# Altium footprint library s-PBGA.PcbLib: 1 footprints
Each footprint in its own frame and in the unit in brackets; x right, y up, seen from the top. Pads: shape width x height; smd on the part's side, far side on the other; paste and mask are expansions set on the pad; w line width, h text height; cw(c..) or ccw(c..) is an arc to the next point about the centre after c.
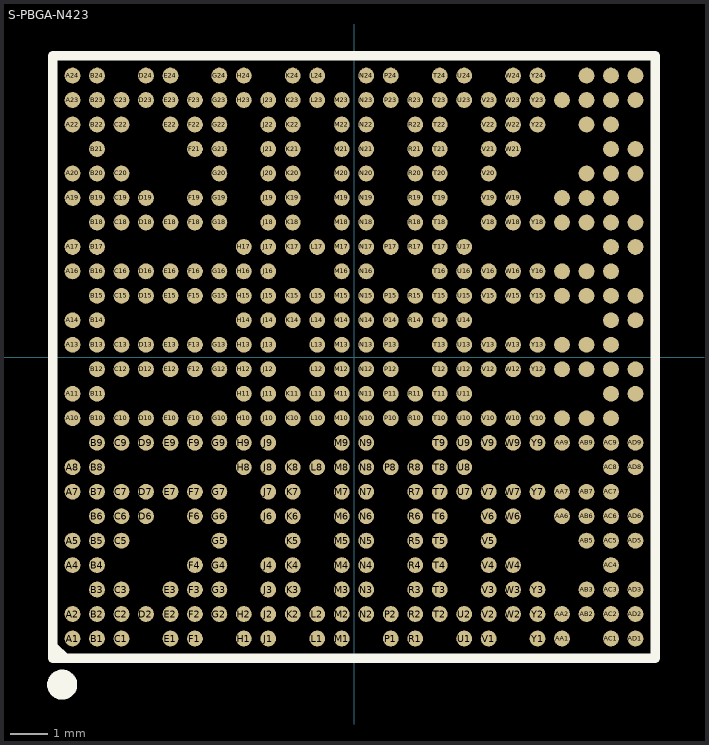
[diagram p0: the footprint, top view; thin cyan lines are the x and y axes]

## S-PBGA-N423 [mm]
pads (424):
  round 0.42 smd mask+0.051: A1(-7.475,-7.475) A2(-7.475,-6.825) A4(-7.475,-5.525) A5(-7.475,-4.875) A7(-7.475,-3.575) A8(-7.475,-2.925) A10(-7.475,-1.625) A11(-7.475,-0.975) A13(-7.475,0.325) A14(-7.475,0.975) A16(-7.475,2.275) A17(-7.475,2.925) A19(-7.475,4.225) A20(-7.475,4.875) A22(-7.475,6.175) A23(-7.475,6.825) A24(-7.475,7.475) AA1(5.525,-7.475) AA2(5.525,-6.825) AA6(5.525,-4.225) AA7(5.525,-3.575) AA9(5.525,-2.275) AA10(5.525,-1.625) AA12(5.525,-0.325) AA13(5.525,0.325) AA15(5.525,1.625) AA16(5.525,2.275) AA18(5.525,3.575) AA19(5.525,4.225) AA23(5.525,6.825) AB2(6.175,-6.825) AB3(6.175,-6.175) AB5(6.175,-4.875) AB6(6.175,-4.225) AB7(6.175,-3.575) AB9(6.175,-2.275) AB10(6.175,-1.625) AB12(6.175,-0.325) AB13(6.175,0.325) AB15(6.175,1.625) AB16(6.175,2.275) AB18(6.175,3.575) AB19(6.175,4.225) AB20(6.175,4.875) AB22(6.175,6.175) AB23(6.175,6.825) AB24(6.175,7.475) AC1(6.825,-7.475) AC2(6.825,-6.825) AC3(6.825,-6.175) AC4(6.825,-5.525) AC5(6.825,-4.875) AC6(6.825,-4.225) AC7(6.825,-3.575) AC8(6.825,-2.925) AC9(6.825,-2.275) AC10(6.825,-1.625) AC11(6.825,-0.975) AC12(6.825,-0.325) AC13(6.825,0.325) AC14(6.825,0.975) AC15(6.825,1.625) AC16(6.825,2.275) AC17(6.825,2.925) AC18(6.825,3.575) AC19(6.825,4.225) AC20(6.825,4.875) AC21(6.825,5.525) AC22(6.825,6.175) AC23(6.825,6.825) AC24(6.825,7.475) AD1(7.475,-7.475) AD2(7.475,-6.825) AD3(7.475,-6.175) AD5(7.475,-4.875) AD6(7.475,-4.225) AD8(7.475,-2.925) AD9(7.475,-2.275) AD11(7.475,-0.975) AD12(7.475,-0.325) AD14(7.475,0.975) AD15(7.475,1.625) AD17(7.475,2.925) AD18(7.475,3.575) AD20(7.475,4.875) AD21(7.475,5.525) AD23(7.475,6.825) AD24(7.475,7.475) B1(-6.825,-7.475) B2(-6.825,-6.825) B3(-6.825,-6.175) B4(-6.825,-5.525) B5(-6.825,-4.875) B6(-6.825,-4.225) B7(-6.825,-3.575) B8(-6.825,-2.925) B9(-6.825,-2.275) B10(-6.825,-1.625) B11(-6.825,-0.975) B12(-6.825,-0.325) B13(-6.825,0.325) B14(-6.825,0.975) B15(-6.825,1.625) B16(-6.825,2.275) B17(-6.825,2.925) B18(-6.825,3.575) B19(-6.825,4.225) B20(-6.825,4.875) B21(-6.825,5.525) B22(-6.825,6.175) B23(-6.825,6.825) B24(-6.825,7.475) C1(-6.175,-7.475) C2(-6.175,-6.825) C3(-6.175,-6.175) C5(-6.175,-4.875) C6(-6.175,-4.225) C7(-6.175,-3.575) C9(-6.175,-2.275) C10(-6.175,-1.625) C12(-6.175,-0.325) C13(-6.175,0.325) C15(-6.175,1.625) C16(-6.175,2.275) C18(-6.175,3.575) C19(-6.175,4.225) C20(-6.175,4.875) C22(-6.175,6.175) C23(-6.175,6.825) D2(-5.525,-6.825) D6(-5.525,-4.225) D7(-5.525,-3.575) D9(-5.525,-2.275) D10(-5.525,-1.625) D12(-5.525,-0.325) D13(-5.525,0.325) D15(-5.525,1.625) D16(-5.525,2.275) D18(-5.525,3.575) D19(-5.525,4.225) D23(-5.525,6.825) D24(-5.525,7.475) E1(-4.875,-7.475) E2(-4.875,-6.825) E3(-4.875,-6.175) E7(-4.875,-3.575) E9(-4.875,-2.275) E10(-4.875,-1.625) E12(-4.875,-0.325) E13(-4.875,0.325) E15(-4.875,1.625) E16(-4.875,2.275) E18(-4.875,3.575) E22(-4.875,6.175) E23(-4.875,6.825) E24(-4.875,7.475) F1(-4.225,-7.475) F2(-4.225,-6.825) F3(-4.225,-6.175) F4(-4.225,-5.525) F6(-4.225,-4.225) F7(-4.225,-3.575) F9(-4.225,-2.275) F10(-4.225,-1.625) F12(-4.225,-0.325) F13(-4.225,0.325) F15(-4.225,1.625) F16(-4.225,2.275) F18(-4.225,3.575) F19(-4.225,4.225) F21(-4.225,5.525) F22(-4.225,6.175) F23(-4.225,6.825) G2(-3.575,-6.825) G3(-3.575,-6.175) G4(-3.575,-5.525) G5(-3.575,-4.875) G6(-3.575,-4.225) G7(-3.575,-3.575) G9(-3.575,-2.275) G10(-3.575,-1.625) G12(-3.575,-0.325) G13(-3.575,0.325) G15(-3.575,1.625) G16(-3.575,2.275) G18(-3.575,3.575) G19(-3.575,4.225) G20(-3.575,4.875) G21(-3.575,5.525) G22(-3.575,6.175) G23(-3.575,6.825) G24(-3.575,7.475) H1(-2.925,-7.475) H2(-2.925,-6.825) H8(-2.925,-2.925) H9(-2.925,-2.275) H10(-2.925,-1.625) H11(-2.925,-0.975) H12(-2.925,-0.325) H13(-2.925,0.325) H14(-2.925,0.975) H15(-2.925,1.625) H16(-2.925,2.275) H17(-2.925,2.925) H23(-2.925,6.825) H24(-2.925,7.475) J1(-2.275,-7.475) J2(-2.275,-6.825) J3(-2.275,-6.175) J4(-2.275,-5.525) J6(-2.275,-4.225) J7(-2.275,-3.575) J8(-2.275,-2.925) J9(-2.275,-2.275) J10(-2.275,-1.625) J11(-2.275,-0.975) J12(-2.275,-0.325) J13(-2.275,0.325) J14(-2.275,0.975) J15(-2.275,1.625) J16(-2.275,2.275) J17(-2.275,2.925) J18(-2.275,3.575) J19(-2.275,4.225) J20(-2.275,4.875) J21(-2.275,5.525) J22(-2.275,6.175) J23(-2.275,6.825) K2(-1.625,-6.825) K3(-1.625,-6.175) K4(-1.625,-5.525) K5(-1.625,-4.875) K6(-1.625,-4.225) K7(-1.625,-3.575) K8(-1.625,-2.925) K10(-1.625,-1.625) K11(-1.625,-0.975) K14(-1.625,0.975) K15(-1.625,1.625) K17(-1.625,2.925) K18(-1.625,3.575) K19(-1.625,4.225) K20(-1.625,4.875) K21(-1.625,5.525) K22(-1.625,6.175) K23(-1.625,6.825) K24(-1.625,7.475) L1(-0.975,-7.475) L2(-0.975,-6.825) L8(-0.975,-2.925) L10(-0.975,-1.625) L11(-0.975,-0.975) L12(-0.975,-0.325) L13(-0.975,0.325) L14(-0.975,0.975) L15(-0.975,1.625) L17(-0.975,2.925) L23(-0.975,6.825) L24(-0.975,7.475) M1(-0.325,-7.475) M2(-0.325,-6.825) M3(-0.325,-6.175) M4(-0.325,-5.525) M5(-0.325,-4.875) M6(-0.325,-4.225) M7(-0.325,-3.575) M8(-0.325,-2.925) M9(-0.325,-2.275) M10(-0.325,-1.625) M11(-0.325,-0.975) M12(-0.325,-0.325) M13(-0.325,0.325) M14(-0.325,0.975) M15(-0.325,1.625) M16(-0.325,2.275) M17(-0.325,2.925) M18(-0.325,3.575) M19(-0.325,4.225) M20(-0.325,4.875) M21(-0.325,5.525) M22(-0.325,6.175) M23(-0.325,6.825) N2(0.325,-6.825) N3(0.325,-6.175) N4(0.325,-5.525) N5(0.325,-4.875) N6(0.325,-4.225) N7(0.325,-3.575) N8(0.325,-2.925) N9(0.325,-2.275) N10(0.325,-1.625) N11(0.325,-0.975) N12(0.325,-0.325) N13(0.325,0.325) N14(0.325,0.975) N15(0.325,1.625) N16(0.325,2.275) N17(0.325,2.925) N18(0.325,3.575) N19(0.325,4.225) N20(0.325,4.875) N21(0.325,5.525) N22(0.325,6.175) N23(0.325,6.825) N24(0.325,7.475) P1(0.975,-7.475) P2(0.975,-6.825) P8(0.975,-2.925) P10(0.975,-1.625) P11(0.975,-0.975) P12(0.975,-0.325) P13(0.975,0.325) P14(0.975,0.975) P15(0.975,1.625) P17(0.975,2.925) P23(0.975,6.825) P24(0.975,7.475) R1(1.625,-7.475) R2(1.625,-6.825) R3(1.625,-6.175) R4(1.625,-5.525) R5(1.625,-4.875) R6(1.625,-4.225) R7(1.625,-3.575) R8(1.625,-2.925) R10(1.625,-1.625) R11(1.625,-0.975) R14(1.625,0.975) R15(1.625,1.625) R17(1.625,2.925) R18(1.625,3.575) R19(1.625,4.225) R20(1.625,4.875) R21(1.625,5.525) R22(1.625,6.175) R23(1.625,6.825) T2(2.275,-6.825) T3(2.275,-6.175) T4(2.275,-5.525) T5(2.275,-4.875) T6(2.275,-4.225) T7(2.275,-3.575) T8(2.275,-2.925) T9(2.275,-2.275) T10(2.275,-1.625) T11(2.275,-0.975) T12(2.275,-0.325) T13(2.275,0.325) T14(2.275,0.975) T15(2.275,1.625) T16(2.275,2.275) T17(2.275,2.925) T18(2.275,3.575) T19(2.275,4.225) T20(2.275,4.875) T21(2.275,5.525) T22(2.275,6.175) T23(2.275,6.825) T24(2.275,7.475) U1(2.925,-7.475) U2(2.925,-6.825) U7(2.925,-3.575) U8(2.925,-2.925) U9(2.925,-2.275) U10(2.925,-1.625) U11(2.925,-0.975) U12(2.925,-0.325) U13(2.925,0.325) U14(2.925,0.975) U15(2.925,1.625) U16(2.925,2.275) U17(2.925,2.925) U23(2.925,6.825) U24(2.925,7.475) V1(3.575,-7.475) V2(3.575,-6.825) V3(3.575,-6.175) V4(3.575,-5.525) V5(3.575,-4.875) V6(3.575,-4.225) V7(3.575,-3.575) V9(3.575,-2.275) V10(3.575,-1.625) V12(3.575,-0.325) V13(3.575,0.325) V15(3.575,1.625) V16(3.575,2.275) V18(3.575,3.575) V19(3.575,4.225) V20(3.575,4.875) V21(3.575,5.525) V22(3.575,6.175) V23(3.575,6.825) W2(4.225,-6.825) W3(4.225,-6.175) W4(4.225,-5.525) W6(4.225,-4.225) W7(4.225,-3.575) W9(4.225,-2.275) W10(4.225,-1.625) W12(4.225,-0.325) W13(4.225,0.325) W15(4.225,1.625) W16(4.225,2.275) W18(4.225,3.575) W19(4.225,4.225) W21(4.225,5.525) W22(4.225,6.175) W23(4.225,6.825) W24(4.225,7.475) Y1(4.875,-7.475) Y2(4.875,-6.825) Y3(4.875,-6.175) Y7(4.875,-3.575) Y9(4.875,-2.275) Y10(4.875,-1.625) Y12(4.875,-0.325) Y13(4.875,0.325) Y15(4.875,1.625) Y16(4.875,2.275) Y18(4.875,3.575) Y22(4.875,6.175) Y23(4.875,6.825) Y24(4.875,7.475)
Top Overlay:
  circle w0.4: c-7.75,-8.7 r0.2
  lines w0.2: -7.975,-7.675 -7.625,-8
  lines w0.254: -8,-8 -8,8 8,8 8,-8 -8,-8